# Altium footprint library SRes_KOA_PSG4NTEBL500F_500uOhm.PcbLib: 1 footprints
Each footprint in its own frame and in the unit in brackets; x right, y up, seen from the top. Pads: shape width x height; smd on the part's side, far side on the other; paste and mask are expansions set on the pad; w line width, h text height; cw(c..) or ccw(c..) is an arc to the next point about the centre after c.
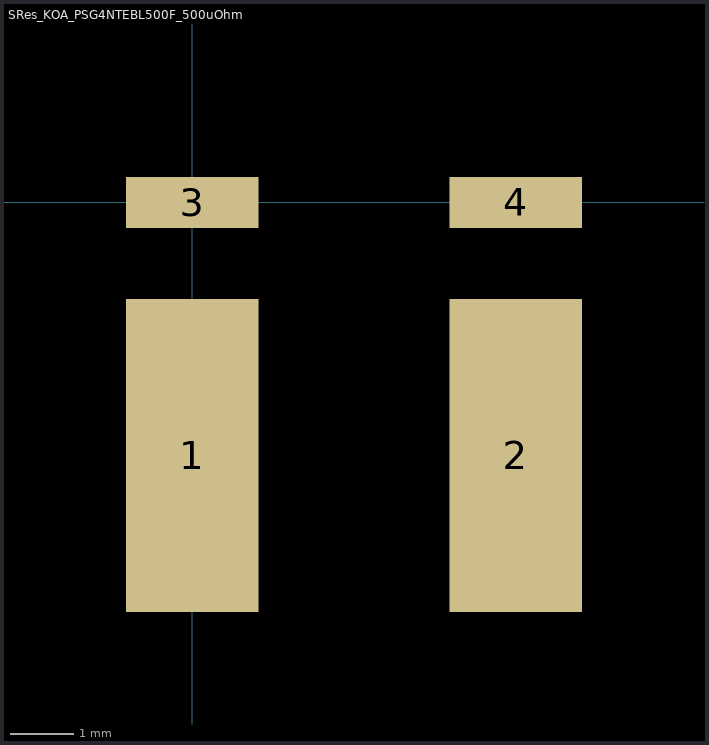
[diagram p0: the footprint, top view; thin cyan lines are the x and y axes]

## SRes_KOA_PSG4NTEBL500F_500uOhm [mm]
pads (4):
  rect 2.1x4.95 smd: 1(0,-4) 2(5.114,-4)
  rect 2.1x0.8 smd: 3(0,0) 4(5.114,0)